# Altium footprint library 5055750261.PcbLib: 1 footprints
Each footprint in its own frame and in the unit in brackets; x right, y up, seen from the top. Pads: shape width x height; smd on the part's side, far side on the other; paste and mask are expansions set on the pad; w line width, h text height; cw(c..) or ccw(c..) is an arc to the next point about the centre after c.
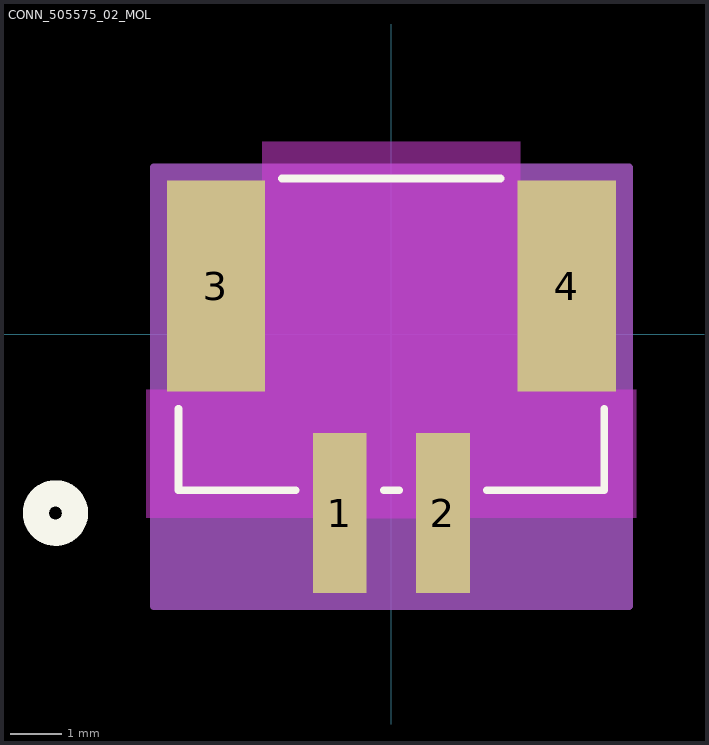
[diagram p0: the footprint, top view; thin cyan lines are the x and y axes]

## CONN_505575_02_MOL [mil]
pads (4):
  rect 41x122 smd paste+0 mask+0: 1(-39.37,-136.39) 2(39.37,-136.39)
  rect 75x161 smd paste+0 mask+0: 3(-133.86,36.83) 4(133.86,36.83)
Top Layer keep-out:
  region: 98.5,146.87 -98.5,146.87 -98.5,-77.13 98.5,-77.13
  region: -59.03,-42.12 -187.03,-42.12 -187.03,-140.12 -59.03,-140.12
  region: 187.03,-42.12 59.03,-42.12 59.03,-140.12 187.03,-140.12
  region: 19.5,-77.33 -19.5,-77.33 -19.5,-140.33 19.5,-140.33
Top Overlay:
  circle w20: c-256.36,-136.39 r15
  lines w6: -162.5,-56.77 -162.5,-119 -72.97,-119 ; -83.36,119 83.36,119 ; -5.77,-119 5.77,-119 ; 72.97,-119 162.5,-119 162.5,-56.77
  text ".Designator" at -137.5,-161.39 h50
Bottom Overlay:
  circle w20: c-256.36,-136.39 r15
Mechanical 13:
  circle w20: c-39.37,-136.39 r15
  lines w1: -157.5,-114 157.5,-114 157.5,114 -157.5,114 -157.5,-114
  text ".Designator" at -137.5,-161.39 h50
Mechanical 15:
  region: 181.36,127.33 -181.36,127.33 -181.36,-207.39 181.36,-207.39
  lines w6: -181.36,-207.39 -181.36,127.33 181.36,127.33 181.36,-207.39 -181.36,-207.39